# Altium schematic symbol library PH9455.SchLib: 2 symbols
Pins are listed as number, name and electrical type; pins without a type are passive.

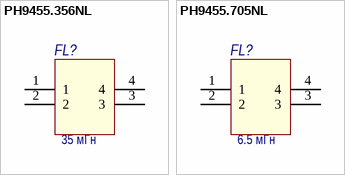
[diagram p0: symbols PH9455.356NL to PH9455.705NL]

## PH9455.356NL
designator FL?  value 35 мГн  (hidden comment: PH9455.356NL)
EMI Filter
footprint PH9455.356NL (EMI Filter 35mH)
pins: 1, 2, 3, 4

## PH9455.705NL
designator FL?  value 6.5 мГн  (hidden comment: PH9455.705NL)
EMI Filter
footprint PH9455.706NL
pins: 1, 2, 3, 4